# EAGLE library part FAN4860 (library LinnesLab-Power)
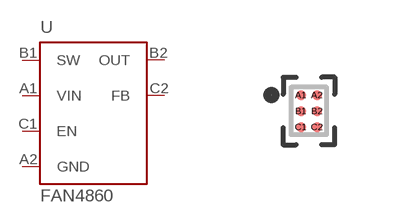
[diagram p7: symbol with the pads of BGA6N40P2X3_116X86X62; footprint BGA6N40P2X3_116X86X62]

Designator prefix U

## FAN4860  [BGA6N40P2X3_116X86X62]
A1  VIN
A2  GND
B1  SW
B2  OUT
C1  EN
C2  FB

## Footprint BGA6N40P2X3_116X86X62 (pad centres in mm)
smd 0.25 x 0.25: A1 -0.2,0.4; A2 0.2,0.4; B1 -0.2,0; B2 0.2,0; C1 -0.2,-0.4; C2 0.2,-0.4